# EAGLE library part LT6023 (library JK-op amps)
The LT6023 is a low power, enhanced slew rate, precision operational amplifier made by Analog Devices.
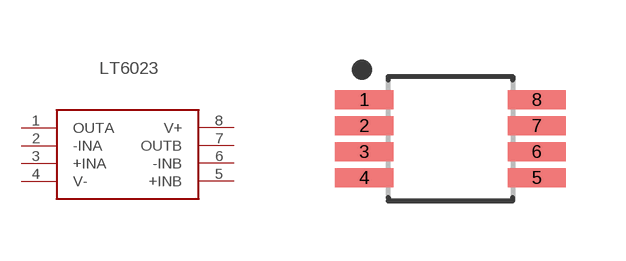
[diagram p1: symbol with the pads of 8-MSOP; footprint 8-MSOP]

Designator prefix -

## LT6023 (GENERATOR: Jake Kapala; MANUFACTURER: Analog Devices; MAX_DIFFERENTIAL_VOLTAGE: 36V; MAX_SUPPLY_VOLTAGE: 36V; MINIMUM_SUPPLY_VOLTAGE: 3V; PACKAGE: MSOP; PINS: 8)  [8-MSOP]
1  OUTA
2  -INA
3  +INA
4  V-
5  +INB
6  -INB
7  OUTB
8  V+

## Footprint 8-MSOP (pad centres in mm)
8-SOP, 0.65 mm pitch, 4.90 mm span, 3.00 X 3.00 X 1.10 mm body 8-pin SOP package with 0.65 mm pitch, 4.90 mm span with body size 3.00 X 3.00 X 1.10 mm
smd 1.456 x 0.475: 1 -2.157,0.975; 2 -2.157,0.325; 3 -2.157,-0.325; 4 -2.157,-0.975; 5 2.157,-0.975; 6 2.157,-0.325; 7 2.157,0.325; 8 2.157,0.975